# Altium footprint library Fuse.PcbLib: 3 footprints
Each footprint in its own frame and in the unit in brackets; x right, y up, seen from the top. Pads: shape width x height; smd on the part's side, far side on the other; paste and mask are expansions set on the pad; w line width, h text height; cw(c..) or ccw(c..) is an arc to the next point about the centre after c.
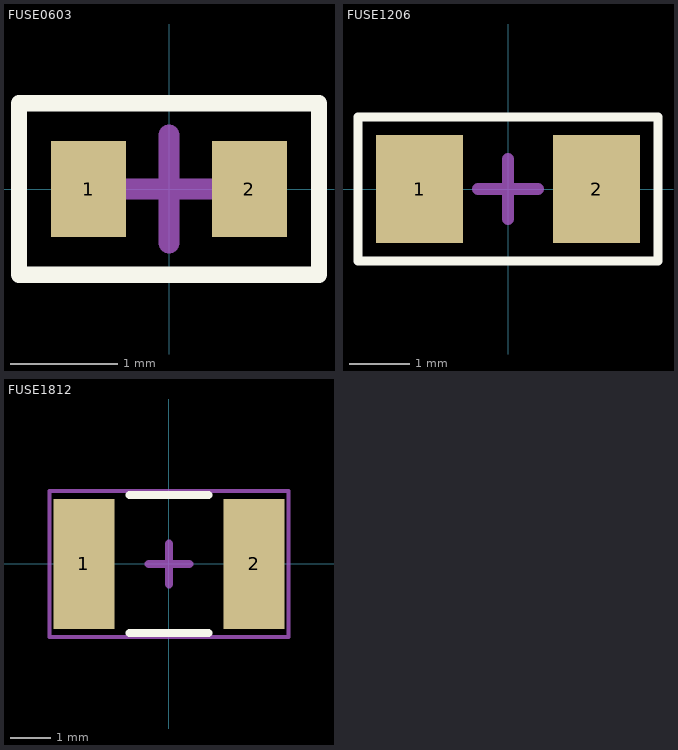
[diagram p0: the footprints below, top view; thin cyan lines are the x and y axes]

## FUSE0603 [mm]
pads (2):
  rect 0.7x0.9 smd: 1(-0.75,0) 2(0.75,0)
Top Overlay:
  lines w0.153: -1.4,-0.8 -1.4,0.8 1.4,0.8 1.4,-0.8 -1.4,-0.8
Top Assembly:
  lines w0.1: -1.4,-0.8 1.4,-0.8 1.4,0.8 -1.4,0.8 -1.4,-0.8
  text "'.Designator'" at -4.547,1.22 h0.8
Top Courtyard:
  lines w0.1: -1.4,-0.8 -1.4,0.8 1.4,0.8 1.4,-0.8 -1.4,-0.8
  lines w0.2: -0.5,0 0.5,0 ; 0,-0.5 0,0.5
3D body "SF-0603S100-2.stp": height 0.55, standoff 0, extent -0.8,-0.4 0.8,0.4

## FUSE1206 [mm]
pads (2):
  rect 1.45x1.8 smd: 1(-1.475,0) 2(1.475,0)
Top Overlay:
  lines w0.153: -2.5,-1.2 -2.5,1.2 2.5,1.2 2.5,-1.2 -2.5,-1.2
Top Assembly:
  lines w0.1: -2.5,-1.2 -2.5,1.2 2.5,1.2 2.5,-1.2 -2.5,-1.2
  text "'.Designator'" at -2.347,1.62 h0.8
Top Courtyard:
  lines w0.1: -2.5,-1.2 2.5,-1.2 2.5,1.2 -2.5,1.2 -2.5,-1.2
  lines w0.2: -0.5,0 0.5,0 ; 0,-0.5 0,0.5
3D body "SF-1206SA450M-2.stp": height 1.05, standoff 0, extent -1.6,-0.8 1.6,0.8

## FUSE1812 [mm]
pads (2):
  rect 1.5x3.2 smd paste+0 mask+0: 1(-2.1,0) 2(2.1,0)
Top Overlay:
  lines w0.2: -0.975,-1.705 0.975,-1.705 ; -0.975,1.705 0.975,1.705
Top Assembly:
  lines w0.1: -2.95,-1.805 -2.95,1.805 2.95,1.805 2.95,-1.805 -2.95,-1.805
Top Courtyard:
  lines w0.1: -2.95,-1.805 2.95,-1.805 2.95,1.805 -2.95,1.805 -2.95,-1.805
  lines w0.2: -0.5,0 0.5,0 ; 0,-0.5 0,0.5
3D body "Fuse_Bourns_MF-MSMF050-2_eec.STEP": height 0.85, standoff 0, extent -2.275,-1.62 2.275,1.62